# EAGLE library part LMV358AM8X (library Fairchild_By_element14_Batch_1)
General Purpose Low Voltage Rail to Rail Output Ampilifiers
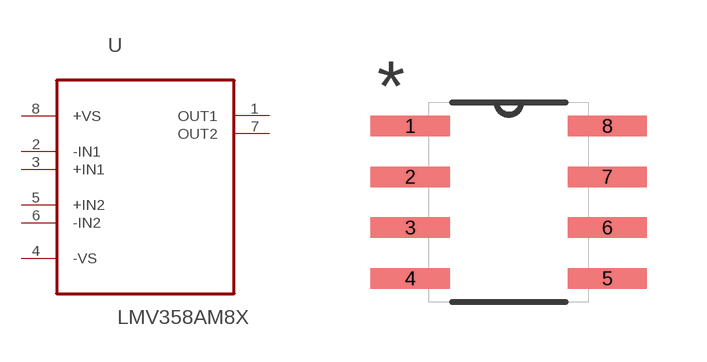
[diagram p221: symbol with the pads of SOIC127P620X172-8N; footprint SOIC127P620X172-8N]

Designator prefix U

## LMV358AM8X (MPN: LMV358AM8X; OC_FARNELL: 1262552; OC_NEWARK: 29H0537; PACKAGE: SOIC-8; SUPPLIER: FAIRCHILD SEMICONDUCTOR)  [SOIC127P620X172-8N]
1  OUT1  out
2  -IN1  in
3  +IN1  in
4  -VS  pwr
5  +IN2  in
6  -IN2  in
7  OUT2  out
8  +VS  pwr

## Footprint SOIC127P620X172-8N (pad centres in mm)
smd 1.981 x 0.508: 1 -2.464,1.905; 2 -2.464,0.635; 3 -2.464,-0.635; 4 -2.464,-1.905; 5 2.464,-1.905; 6 2.464,-0.635; 7 2.464,0.635; 8 2.464,1.905